# Altium schematic symbol library LiPoBattery.SchLib: 5 symbols
Pins are listed as number, name and electrical type; pins without a type are passive.

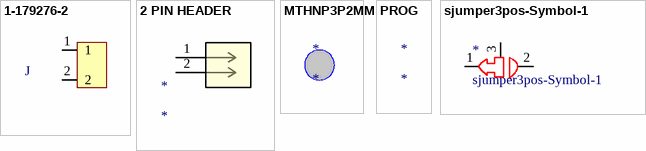
[diagram p0: symbols 1-179276-2 to sjumper3pos-Symbol-1]

## 1-179276-2
designator J
Dynamic 3000, 5.08MM Pitch 2 -way, 1 Row Right Angle Pcb Header, Solder Term; Manufacturer: TE Connectivity; Manufacturer Part Number: 1-179276-2; Manufacturer Lifecycle Status: ACTIVE; Approvals: UL; Connector System: Wire-to-Board; Connector Type: Header, Plug, Tab; Contact Current Rating: 15A; Contact Retention: Without; Gender: Male; Insulation Resistance: 100MΩ; Mating Alignment: With; Max Voltage Rating (AC): 600V; Number of Contacts: 2; Number of Ports: 1; Operating Force: 4.8928N; PCB Thickness: 1.6002mm; Plating Thickness: 381nm; Preloaded: Yes; Sealable: No; Shielding: Unshielded; Tail Length: 3.8mm; Supplier: Arrow Electronics; Supplier Part Number: 1-179276-2; RoHS: Compliant; Category: Headers and Wire Housings; Stock: 4048; Pricing: 1=2.1052, 26=1.6722, 104=1.5164, 520=1.3535, 1014=1.2943 (USD); China RoHS: Compliant; Color: Black; Contact Gender: Male; Contact Material: Gold, Nickel; Contact Plating: Gold, Tin; Current Rating: 15A; Depth: 22.1mm; Export Control Classification Number (ECCN) Code: EAR99; ELV: Compliant; Flammability Rating: UL94 V-0; Halogen Free: Halogen Free; Height: 11.25mm; Housing Color: Black; Housing Material: Nylon; Harmonized Tariff Schedule (HTS) Code: 8536.69.40.30; Introduction Date: 1997-09-06; Lead Free: Lead Free; Length: 19.0754mm; Lifecycle Status: Production; Mating Retention: With; Max Operating Temperature: 105°C; Min Operating Temperature: -55°C; Mounting Technology: Through Hole; Pins: 2; Number of Positions: 2; Number of Rows: 1; Number of Terminals: 2; Operating Supply Voltage: 600V; Orientation: Right Angle; Packaging: Bulk; PCB Mounting Orientation: Right Angle; PCB Mount Retention: With; Pitch: 5.08mm; Radiation Hardening: No; REACH SVHC: Yes; Terminal Pitch: 5.08mm; Termination: Solder; VDE Tested: No; Voltage Rating: 600V; Width: 22.098mm; ComponentLink1URL: https://datasheet.octopart.com:443/1-179276-2-TE-Connectivity-datasheet-179899453.pdf?src-supplier=IHS; ComponentLink1Description: https://datasheet.octopart.com:443/1-179276-2-TE-Connectivity-datasheet-179899453.pdf?src-supplier=IHS; ComponentLink2URL: https://sigma.octopart.com:443/15059836/technical_drawing/TE-Connectivity-1-179276-2.pdf?src-supplier=Farnell; ComponentLink2Description: https://sigma.octopart.com:443/15059836/technical_drawing/TE-Connectivity-1-179276-2.pdf?src-supplier=Farnell; ComponentLink3URL: https://datasheet.octopart.com:443/1-179276-2-TE-Connectivity-datasheet-42633666.pdf?src-supplier=Master+Electronics; ComponentLink3Description: https://datasheet.octopart.com:443/1-179276-2-TE-Connectivity-datasheet-42633666.pdf?src-supplier=Master+Electronics; ComponentLink4URL: https://datasheet.octopart.com:443/1-179276-2-TE-Connectivity---AMP-datasheet-181563238.pdf?src-supplier=Master+Electronics; ComponentLink4Description: https://datasheet.octopart.com:443/1-179276-2-TE-Connectivity---AMP-datasheet-181563238.pdf?src-supplier=Master+Electronics; ComponentLink5URL: https://datasheet.octopart.com:443/1-179276-2-TE-Connectivity-datasheet-11077907.pdf?src-supplier=Electro+Sonic; ComponentLink5Description: https://datasheet.octopart.com:443/1-179276-2-TE-Connectivity-datasheet-11077907.pdf?src-supplier=Electro+Sonic; ComponentLink6URL: https://datasheet.octopart.com:443/1-179276-2-TE-Connectivity-datasheet-155826164.pdf?src-supplier=TE+Connectivity; ComponentLink6Description: https://datasheet.octopart.com:443/1-179276-2-TE-Connectivity-datasheet-155826164.pdf?src-supplier=TE+Connectivity; ComponentLink7URL: https://datasheet.octopart.com:443/1-179276-2-Agastat-datasheet-15059020.pdf?src-supplier=TE+Connectivity; ComponentLink7Description: https://datasheet.octopart.com:443/1-179276-2-Agastat-datasheet-15059020.pdf?src-supplier=TE+Connectivity; ComponentLink8URL: https://datasheet.octopart.com:443/1-179276-2-Agastat-datasheet-15028295.pdf?src-supplier=TE+Connectivity; ComponentLink8Description: https://datasheet.octopart.com:443/1-179276-2-Agastat-datasheet-15028295.pdf?src-supplier=TE+Connectivity; ComponentLink9URL: https://datasheet.octopart.com:443/1-179276-2-AMP-datasheet-176864351.pdf?src-supplier=Burklin+Elektronik; ComponentLink9Description: https://datasheet.octopart.com:443/1-179276-2-AMP-datasheet-176864351.pdf?src-supplier=Burklin+Elektronik; ComponentLink10URL: https://datasheet.octopart.com:443/1-179276-2-TE-Connectivity-datasheet-101747747.pdf?src-supplier=Future+Electronics; ComponentLink10Description: https://datasheet.octopart.com:443/1-179276-2-TE-Connectivity-datasheet-101747747.pdf?src-supplier=Future+Electronics; ComponentLink11URL: https://datasheet.octopart.com:443/1-179276-2-TE-Connectivity-datasheet-111024656.pdf?src-supplier=RS+(Formerly+Allied+Electronics); ComponentLink11Description: https://datasheet.octopart.com:443/1-179276-2-TE-Connectivity-datasheet-111024656.pdf?src-supplier=RS+(Formerly+Allied+Electronics); ComponentLink12URL: http://sigma.octopart.com:80/38771343/materials_sheet/TE-Connectivity-1-179276-2.pdf?src-supplier=Compliance+Statements; ComponentLink12Description: http://sigma.octopart.com:80/38771343/materials_sheet/TE-Connectivity-1-179276-2.pdf?src-supplier=Compliance+Statements; ComponentLink13URL: http://sigma.octopart.com:80/136662181/materials_sheet/TE-Connectivity-1-179276-2.pdf?src-supplier=Compliance+Statements; ComponentLink13Description: http://sigma.octopart.com:80/136662181/materials_sheet/TE-Connectivity-1-179276-2.pdf?src-supplier=Compliance+Statements; ComponentLink14URL: http://sigma.octopart.com:80/15059835/rohs_certificate/Agastat-1-179276-2.pdf?src-supplier=Compliance+Statements; ComponentLink14Description: http://sigma.octopart.com:80/15059835/rohs_certificate/Agastat-1-179276-2.pdf?src-supplier=Compliance+Statements
footprint PCBComponent_1
pins: 1, 2

## 2 PIN HEADER
designator *
footprint PCBComponent_1 - duplicate
pins: 1, 2

## MTHNP3P2MM
designator *
footprint PCBComponent_1 - duplicate1

## PROG
designator *

## sjumper3pos-Symbol-1
designator *
footprint PCBComponent_1 - duplicate2
pins: 1, 2, 3